# EAGLE library part TL103 (library Jim)
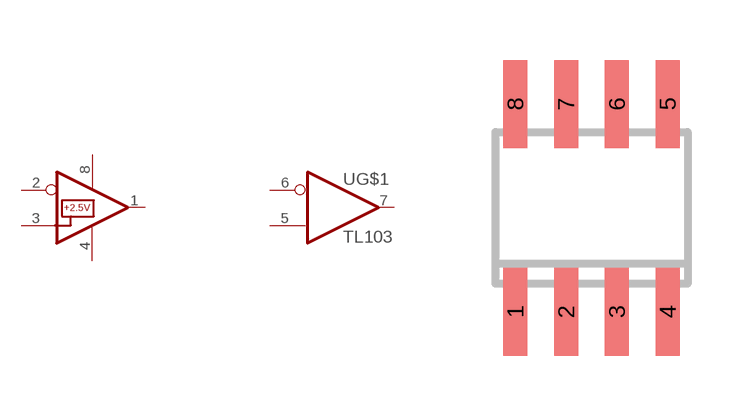
[diagram p26: symbol with the pads of SOIC-8; footprint SOIC-8]

Designator prefix -; gates G$1=OPAMPA G$2=OPAMPB

## TL103SOIC8  [SOIC-8]
1  G$2:OUTA  out
2  G$2:-INA  in
3  G$2:+INA  in
4  G$2:V-  pwr
5  G$1:+INB  in
6  G$1:-INB  in
7  G$1:OUTB  out
8  G$2:V+  pwr

## Footprint SOIC-8 (pad centres in mm)
smd 0.6 x 2.2: 1 -1.905,-2.6; 2 -0.635,-2.6; 3 0.635,-2.6; 4 1.905,-2.6; 5 1.905,2.6; 6 0.635,2.6; 7 -0.635,2.6; 8 -1.905,2.6